# EAGLE library part XC2S*E-TQ144 (library kamiki)
Spartan IIE, TQ144 package.
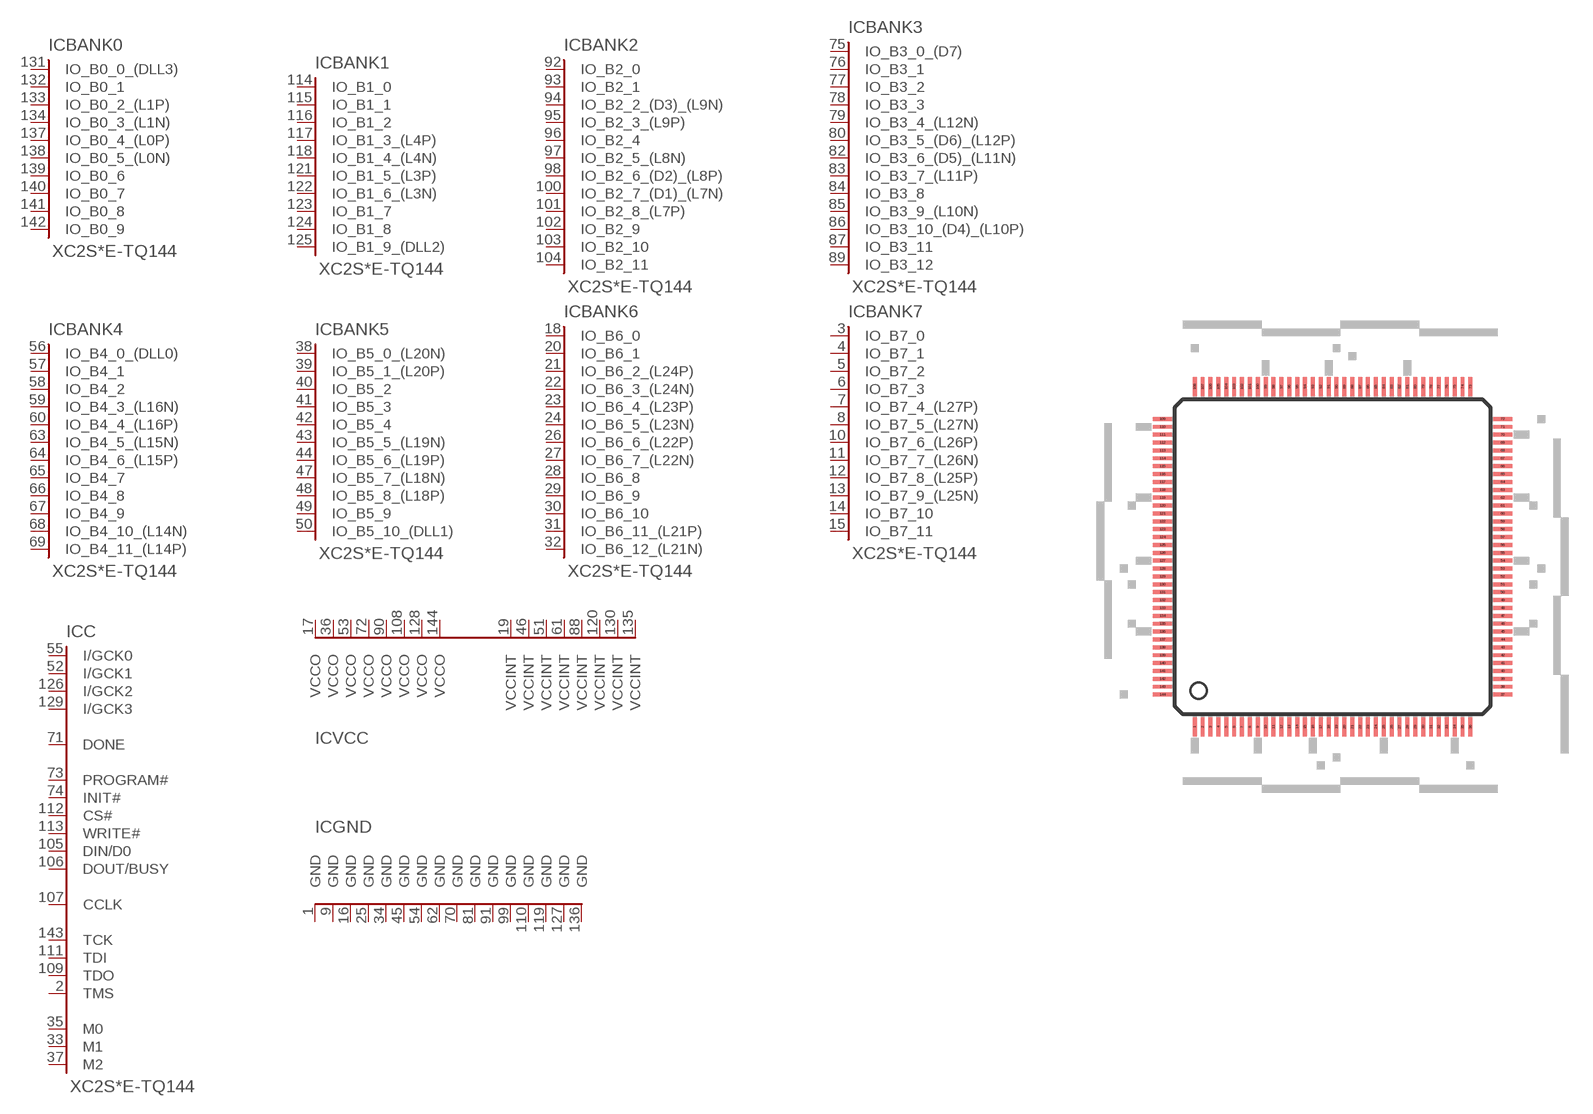
[diagram p36: symbol with the pads of TQ144; footprint TQ144]

Designator prefix IC; gates BANK0=XC2SE_B0/TQ144 BANK1=XC2SE_B1/TQ144 BANK2=XC2SE_B2/TQ144 BANK3=XC2SE_B3/TQ144 BANK4=XC2SE_B4/TQ144 BANK5=XC2SE_B5/TQ144 BANK6=XC2SE_B6/TQ144 BANK7=XC2SE_B7/TQ144 C=XC2SE_C/TQ144 VCC=XC2S50E-POWER GND=XC2S50E-GROUND

## XC2S100E-TQ144, XC2S50E-TQ144  [TQ144]
1  GND:GND  pwr
2  C:TMS
3  BANK7:IO_B7_0
4  BANK7:IO_B7_1
5  BANK7:IO_B7_2
6  BANK7:IO_B7_3
7  BANK7:IO_B7_4_(L27P)
8  BANK7:IO_B7_5_(L27N)
9  GND:GND  pwr
10  BANK7:IO_B7_6_(L26P)
11  BANK7:IO_B7_7_(L26N)
12  BANK7:IO_B7_8_(L25P)
13  BANK7:IO_B7_9_(L25N)
14  BANK7:IO_B7_10
15  BANK7:IO_B7_11
16  GND:GND  pwr
17  VCC:VCCO  pwr
18  BANK6:IO_B6_0
19  VCC:VCCINT  pwr
20  BANK6:IO_B6_1
21  BANK6:IO_B6_2_(L24P)
22  BANK6:IO_B6_3_(L24N)
23  BANK6:IO_B6_4_(L23P)
24  BANK6:IO_B6_5_(L23N)
25  GND:GND  pwr
26  BANK6:IO_B6_6_(L22P)
27  BANK6:IO_B6_7_(L22N)
28  BANK6:IO_B6_8
29  BANK6:IO_B6_9
30  BANK6:IO_B6_10
31  BANK6:IO_B6_11_(L21P)
32  BANK6:IO_B6_12_(L21N)
33  C:M1  in
34  GND:GND  pwr
35  C:M0  in
36  VCC:VCCO  pwr
37  C:M2  in
38  BANK5:IO_B5_0_(L20N)
39  BANK5:IO_B5_1_(L20P)
40  BANK5:IO_B5_2
41  BANK5:IO_B5_3
42  BANK5:IO_B5_4
43  BANK5:IO_B5_5_(L19N)
44  BANK5:IO_B5_6_(L19P)
45  GND:GND  pwr
46  VCC:VCCINT  pwr
47  BANK5:IO_B5_7_(L18N)
48  BANK5:IO_B5_8_(L18P)
49  BANK5:IO_B5_9
50  BANK5:IO_B5_10_(DLL1)
51  VCC:VCCINT  pwr
52  C:I/GCK1
53  VCC:VCCO  pwr
54  GND:GND  pwr
55  C:I/GCK0
56  BANK4:IO_B4_0_(DLL0)
57  BANK4:IO_B4_1
58  BANK4:IO_B4_2
59  BANK4:IO_B4_3_(L16N)
60  BANK4:IO_B4_4_(L16P)
61  VCC:VCCINT  pwr
62  GND:GND  pwr
63  BANK4:IO_B4_5_(L15N)
64  BANK4:IO_B4_6_(L15P)
65  BANK4:IO_B4_7
66  BANK4:IO_B4_8
67  BANK4:IO_B4_9
68  BANK4:IO_B4_10_(L14N)
69  BANK4:IO_B4_11_(L14P)
70  GND:GND  pwr
71  C:DONE
72  VCC:VCCO  pwr
73  C:PROGRAM#
74  C:INIT#
75  BANK3:IO_B3_0_(D7)
76  BANK3:IO_B3_1
77  BANK3:IO_B3_2
78  BANK3:IO_B3_3
79  BANK3:IO_B3_4_(L12N)
80  BANK3:IO_B3_5_(D6)_(L12P)
81  GND:GND  pwr
82  BANK3:IO_B3_6_(D5)_(L11N)
83  BANK3:IO_B3_7_(L11P)
84  BANK3:IO_B3_8
85  BANK3:IO_B3_9_(L10N)
86  BANK3:IO_B3_10_(D4)_(L10P)
87  BANK3:IO_B3_11
88  VCC:VCCINT  pwr
89  BANK3:IO_B3_12
90  VCC:VCCO  pwr
91  GND:GND  pwr
92  BANK2:IO_B2_0
93  BANK2:IO_B2_1
94  BANK2:IO_B2_2_(D3)_(L9N)
95  BANK2:IO_B2_3_(L9P)
96  BANK2:IO_B2_4
97  BANK2:IO_B2_5_(L8N)
98  BANK2:IO_B2_6_(D2)_(L8P)
99  GND:GND  pwr
100  BANK2:IO_B2_7_(D1)_(L7N)
101  BANK2:IO_B2_8_(L7P)
102  BANK2:IO_B2_9
103  BANK2:IO_B2_10
104  BANK2:IO_B2_11
105  C:DIN/D0
106  C:DOUT/BUSY
107  C:CCLK
108  VCC:VCCO  pwr
109  C:TDO
110  GND:GND  pwr
111  C:TDI
112  C:CS#
113  C:WRITE#
114  BANK1:IO_B1_0
115  BANK1:IO_B1_1
116  BANK1:IO_B1_2
117  BANK1:IO_B1_3_(L4P)
118  BANK1:IO_B1_4_(L4N)
119  GND:GND  pwr
120  VCC:VCCINT  pwr
121  BANK1:IO_B1_5_(L3P)
122  BANK1:IO_B1_6_(L3N)
123  BANK1:IO_B1_7
124  BANK1:IO_B1_8
125  BANK1:IO_B1_9_(DLL2)
126  C:I/GCK2
127  GND:GND  pwr
128  VCC:VCCO  pwr
129  C:I/GCK3
130  VCC:VCCINT  pwr
131  BANK0:IO_B0_0_(DLL3)
132  BANK0:IO_B0_1
133  BANK0:IO_B0_2_(L1P)
134  BANK0:IO_B0_3_(L1N)
135  VCC:VCCINT  pwr
136  GND:GND  pwr
137  BANK0:IO_B0_4_(L0P)
138  BANK0:IO_B0_5_(L0N)
139  BANK0:IO_B0_6
140  BANK0:IO_B0_7
141  BANK0:IO_B0_8
142  BANK0:IO_B0_9
143  C:TCK
144  VCC:VCCO  pwr

## Footprint TQ144 (pad centres in mm)
Xilinx Spartan IIE Spartan IIE FPGA from Xilinx.
smd 0.25 x 1.2: 1 -8.75,-10.8; 2 -8.25,-10.8; 3 -7.75,-10.8; 4 -7.25,-10.8; 5 -6.75,-10.8; 6 -6.25,-10.8; 7 -5.75,-10.8; 8 -5.25,-10.8; 9 -4.75,-10.8; 10 -4.25,-10.8; 11 -3.75,-10.8; 12 -3.25,-10.8; 13 -2.75,-10.8; 14 -2.25,-10.8; 15 -1.75,-10.8; 16 -1.25,-10.8; 17 -0.75,-10.8; 18 -0.25,-10.8; 19 0.25,-10.8; 20 0.75,-10.8; 21 1.25,-10.8; 22 1.75,-10.8; 23 2.25,-10.8; 24 2.75,-10.8; 25 3.25,-10.8; 26 3.75,-10.8; 27 4.25,-10.8; 28 4.75,-10.8; 29 5.25,-10.8; 30 5.75,-10.8; 31 6.25,-10.8; 32 6.75,-10.8; 33 7.25,-10.8; 34 7.75,-10.8; 35 8.25,-10.8; 36 8.75,-10.8; 73 8.75,10.8; 74 8.25,10.8; 75 7.75,10.8; 76 7.25,10.8; 77 6.75,10.8; 78 6.25,10.8; 79 5.75,10.8; 80 5.25,10.8; 81 4.75,10.8; 82 4.25,10.8; 83 3.75,10.8; 84 3.25,10.8; 85 2.75,10.8; 86 2.25,10.8; 87 1.75,10.8; 88 1.25,10.8; 89 0.75,10.8; 90 0.25,10.8; 91 -0.25,10.8; 92 -0.75,10.8; 93 -1.25,10.8; 94 -1.75,10.8; 95 -2.25,10.8; 96 -2.75,10.8; 97 -3.25,10.8; 98 -3.75,10.8; 99 -4.25,10.8; 100 -4.75,10.8; 101 -5.25,10.8; 102 -5.75,10.8; 103 -6.25,10.8; 104 -6.75,10.8; 105 -7.25,10.8; 106 -7.75,10.8; 107 -8.25,10.8; 108 -8.75,10.8
smd 1.2 x 0.25: 37 10.8,-8.75; 38 10.8,-8.25; 39 10.8,-7.75; 40 10.8,-7.25; 41 10.8,-6.75; 42 10.8,-6.25; 43 10.8,-5.75; 44 10.8,-5.25; 45 10.8,-4.75; 46 10.8,-4.25; 47 10.8,-3.75; 48 10.8,-3.25; 49 10.8,-2.75; 50 10.8,-2.25; 51 10.8,-1.75; 52 10.8,-1.25; 53 10.8,-0.75; 54 10.8,-0.25; 55 10.8,0.25; 56 10.8,0.75; 57 10.8,1.25; 58 10.8,1.75; 59 10.8,2.25; 60 10.8,2.75; 61 10.8,3.25; 62 10.8,3.75; 63 10.8,4.25; 64 10.8,4.75; 65 10.8,5.25; 66 10.8,5.75; 67 10.8,6.25; 68 10.8,6.75; 69 10.8,7.25; 70 10.8,7.75; 71 10.8,8.25; 72 10.8,8.75; 109 -10.8,8.75; 110 -10.8,8.25; 111 -10.8,7.75; 112 -10.8,7.25; 113 -10.8,6.75; 114 -10.8,6.25; 115 -10.8,5.75; 116 -10.8,5.25; 117 -10.8,4.75; 118 -10.8,4.25; 119 -10.8,3.75; 120 -10.8,3.25; 121 -10.8,2.75; 122 -10.8,2.25; 123 -10.8,1.75; 124 -10.8,1.25; 125 -10.8,0.75; 126 -10.8,0.25; 127 -10.8,-0.25; 128 -10.8,-0.75; 129 -10.8,-1.25; 130 -10.8,-1.75; 131 -10.8,-2.25; 132 -10.8,-2.75; 133 -10.8,-3.25; 134 -10.8,-3.75; 135 -10.8,-4.25; 136 -10.8,-4.75; 137 -10.8,-5.25; 138 -10.8,-5.75; 139 -10.8,-6.25; 140 -10.8,-6.75; 141 -10.8,-7.25; 142 -10.8,-7.75; 143 -10.8,-8.25; 144 -10.8,-8.75